# EAGLE library part STM32F103C8T6 (library custom)
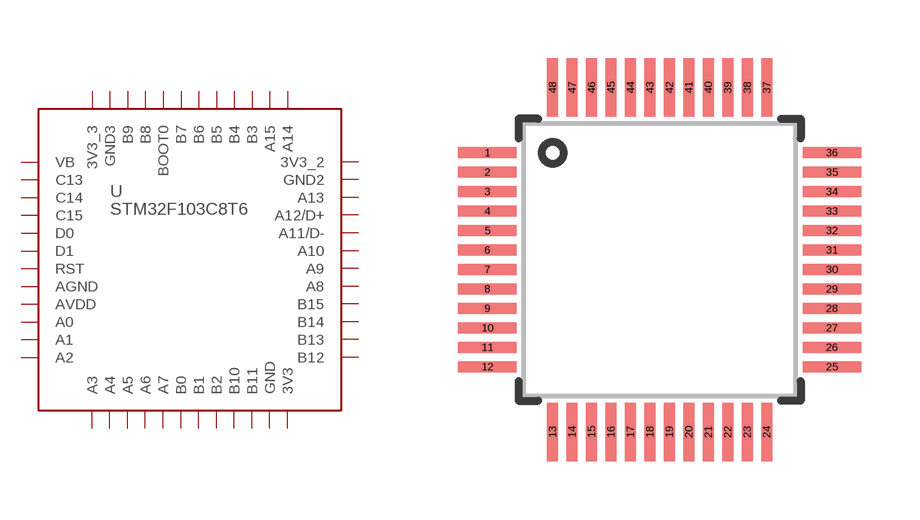
[diagram p147: symbol with the pads of LQFP-48; footprint LQFP-48]

Designator prefix U

## STM32F103C8T6  [LQFP-48]
1  VB
2  C13
3  C14
4  C15
5  D0
6  D1
7  RST
8  AGND
9  AVDD
10  A0
11  A1
12  A2
13  A3
14  A4
15  A5
16  A6
17  A7
18  B0
19  B1
20  B2
21  B10
22  B11
23  GND
24  3V3
25  B12
26  B13
27  B14
28  B15
29  A8
30  A9
31  A10
32  A11/D-
33  A12/D+
34  A13
35  GND2
36  3V3_2
37  A14
38  A15
39  B3
40  B4
41  B5
42  B6
43  B7
44  BOOT0
45  B8
46  B9
47  GND3
48  3V3_3

## Footprint LQFP-48 (pad centres in mm)
smd 1.5 x 0.28: 1 -4.425,2.75; 2 -4.425,2.25; 3 -4.425,1.75; 4 -4.425,1.25; 5 -4.425,0.75; 6 -4.425,0.25; 7 -4.425,-0.25; 8 -4.425,-0.75; 9 -4.425,-1.25; 10 -4.425,-1.75; 11 -4.425,-2.25; 12 -4.425,-2.75; 25 4.425,-2.75; 26 4.425,-2.25; 27 4.425,-1.75; 28 4.425,-1.25; 29 4.425,-0.75; 30 4.425,-0.25; 31 4.425,0.25; 32 4.425,0.75; 33 4.425,1.25; 34 4.425,1.75; 35 4.425,2.25; 36 4.425,2.75
smd 0.28 x 1.5: 13 -2.75,-4.425; 14 -2.25,-4.425; 15 -1.75,-4.425; 16 -1.25,-4.425; 17 -0.75,-4.425; 18 -0.25,-4.425; 19 0.25,-4.425; 20 0.75,-4.425; 21 1.25,-4.425; 22 1.75,-4.425; 23 2.25,-4.425; 24 2.75,-4.425; 37 2.75,4.425; 38 2.25,4.425; 39 1.75,4.425; 40 1.25,4.425; 41 0.75,4.425; 42 0.25,4.425; 43 -0.25,4.425; 44 -0.75,4.425; 45 -1.25,4.425; 46 -1.75,4.425; 47 -2.25,4.425; 48 -2.75,4.425